# EAGLE library part SFV18R-2STE1LF (library FCI-tkr)
FFC/FPC CONNECTOR, RECEPTACLE 18POS 1ROW
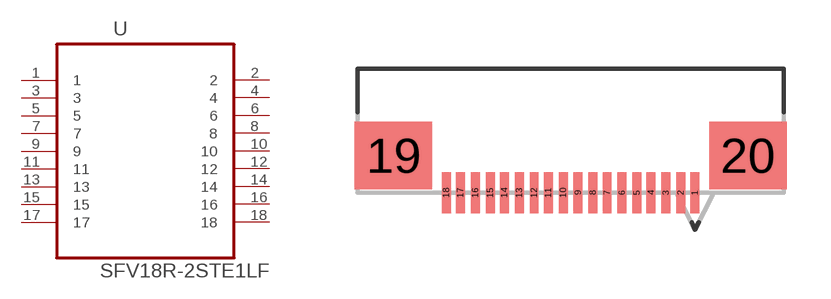
[diagram p49: symbol with the pads of FCI_SFV18R-2STE1LF; footprint FCI_SFV18R-2STE1LF]

Designator prefix U

## SFV18R-2STE1LF (MPN: SFV18R-2STE1LF; OC_FARNELL: -; OC_NEWARK: 62K5578; PACKAGE: CONNECTOR-18POS; SUPPLIER: FCI)  [FCI_SFV18R-2STE1LF]
1  1  pas
2  2  pas
3  3  pas
4  4  pas
5  5  pas
6  6  pas
7  7  pas
8  8  pas
9  9  pas
10  10  pas
11  11  pas
12  12  pas
13  13  pas
14  14  pas
15  15  pas
16  16  pas
17  17  pas
18  18  pas

## Footprint FCI_SFV18R-2STE1LF (pad centres in mm)
smd 0.305 x 1.397: 1 4.242,2.083; 2 3.759,2.083; 3 3.251,2.083; 4 2.743,2.083; 5 2.261,2.083; 6 1.753,2.083; 7 1.245,2.083; 8 0.762,2.083; 9 0.254,2.083; 10 -0.254,2.083; 11 -0.762,2.083; 12 -1.245,2.083; 13 -1.753,2.083; 14 -2.261,2.083; 15 -2.743,2.083; 16 -3.251,2.083; 17 -3.759,2.083; 18 -4.242,2.083
smd 2.642 x 2.311: 19 -6.045,3.353; 20 6.045,3.353